# Altium schematic symbol library DM3AT-SF-PEJM5.Schlib: 1 symbol
Pins are listed as number, name and electrical type; pins without a type are passive.

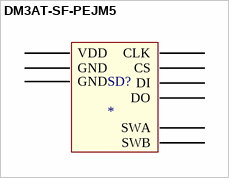
[diagram p0: symbol DM3AT-SF-PEJM5]

## DM3AT-SF-PEJM5
designator SD?
CONN SM MicroSD
pins: 1 CS, 2 DI, 3 GND, 4 VDD, 5 CLK, 6 GND, 7 DO, A SWA, B SWB